# Altium footprint library 封装库.PcbLib: 324 footprints (part 8 of 21)
Each footprint in its own frame and in the unit in brackets; x right, y up, seen from the top. Pads: shape width x height; smd on the part's side, far side on the other; paste and mask are expansions set on the pad; w line width, h text height; cw(c..) or ccw(c..) is an arc to the next point about the centre after c.
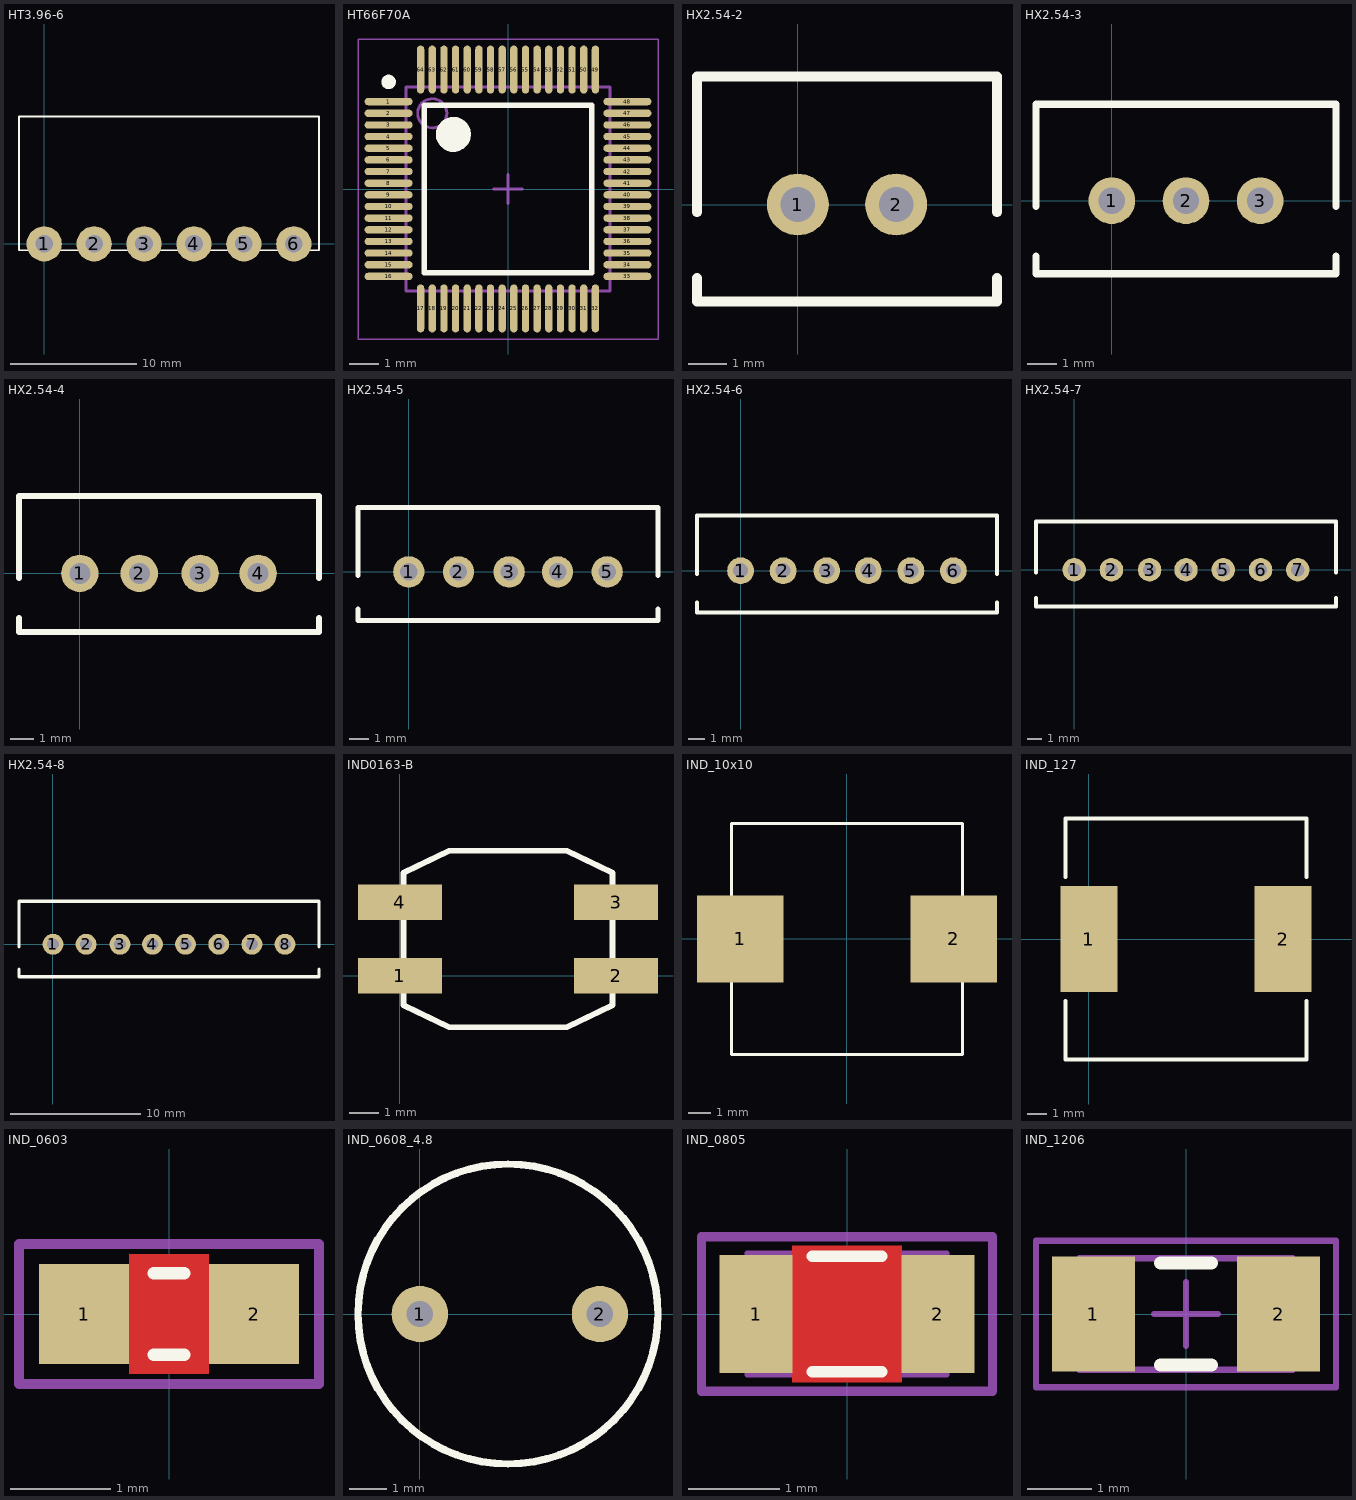
[diagram p7: the footprints below, top view; thin cyan lines are the x and y axes]

## HT3.96-6 [mm] "Connector; Header; 6 Position"
pads (6):
  round 2.8 hole 1.4: 1(0,0) 2(3.96,0) 3(7.92,0) 4(11.88,0) 5(15.84,0) 6(19.8,0)
Top Overlay:
  lines w0.127: -2,-0.5 21.8,-0.5 21.8,10.1 -2,10.1 -2,-0.5

## HT66F70A [mm] "TSQFP, 64-Leads, Body 7.00x7.00mm, Pitch 0.40mm, IPC Medium Density"
height 1.6
pads (64):
  oval 1.65x0.25 smd: 1(-4.1,3) 2(-4.1,2.6) 3(-4.1,2.2) 4(-4.1,1.8) 5(-4.1,1.4) 6(-4.1,1) 7(-4.1,0.6) 8(-4.1,0.2) 9(-4.1,-0.2) 10(-4.1,-0.6) 11(-4.1,-1) 12(-4.1,-1.4) 13(-4.1,-1.8) 14(-4.1,-2.2) 15(-4.1,-2.6) 16(-4.1,-3) 33(4.1,-3) 34(4.1,-2.6) 35(4.1,-2.2) 36(4.1,-1.8) 37(4.1,-1.4) 38(4.1,-1) 39(4.1,-0.6) 40(4.1,-0.2) 41(4.1,0.2) 42(4.1,0.6) 43(4.1,1) 44(4.1,1.4) 45(4.1,1.8) 46(4.1,2.2) 47(4.1,2.6) 48(4.1,3)
  oval 0.25x1.65 smd: 17(-3,-4.1) 18(-2.6,-4.1) 19(-2.2,-4.1) 20(-1.8,-4.1) 21(-1.4,-4.1) 22(-1,-4.1) 23(-0.6,-4.1) 24(-0.2,-4.1) 25(0.2,-4.1) 26(0.6,-4.1) 27(1,-4.1) 28(1.4,-4.1) 29(1.8,-4.1) 30(2.2,-4.1) 31(2.6,-4.1) 32(3,-4.1) 49(3,4.1) 50(2.6,4.1) 51(2.2,4.1) 52(1.8,4.1) 53(1.4,4.1) 54(1,4.1) 55(0.6,4.1) 56(0.2,4.1) 57(-0.2,4.1) 58(-0.6,4.1) 59(-1,4.1) 60(-1.4,4.1) 61(-1.8,4.1) 62(-2.2,4.1) 63(-2.6,4.1) 64(-3,4.1)
Top Overlay:
  circle w0.6: c-1.875,1.875 r0.3
  circle w0.25: c-4.1,3.675 r0.125
  lines w0.2: -2.875,-2.875 2.875,-2.875 2.875,2.875 -2.875,2.875 -2.875,-2.875
Mechanical 13:
  circle w0.1: c-2.6,2.6 r0.5
  lines w0.1: -3.5,-3.5 3.5,-3.5 3.5,3.5 -3.5,3.5 -3.5,-3.5
Mechanical 15:
  lines w0.05: -5.15,-5.15 5.15,-5.15 5.15,5.15 -5.15,5.15 -5.15,-5.15
  lines w0.1: -0.5,0 0.5,0 ; 0,-0.5 0,0.5
3D body: height 1.6, standoff 0.15, extent -3.5,-3.5 3.5,3.5

## HX2.54-2 [mm]
pads (2):
  round 1.6 hole 0.9 unplated: 1(0,0) 2(2.54,0)
Top Overlay:
  lines w0.254: -2.6,-1.9 -2.6,-2.5 5.14,-2.5 5.14,-1.9 ; -2.6,-0.2 -2.6,3.3 5.14,3.3 5.14,-0.2

## HX2.54-3 [mm]
pads (3):
  round 1.6 hole 0.9 unplated: 1(0,0) 2(2.54,0) 3(5.08,0)
Top Overlay:
  lines w0.254: -2.6,-1.9 -2.6,-2.5 7.68,-2.5 7.68,-1.9 ; -2.6,-0.2 -2.6,3.3 7.68,3.3 7.68,-0.2

## HX2.54-4 [mm]
pads (4):
  round 1.6 hole 0.9 unplated: 1(0,0) 2(2.54,0) 3(5.14,0) 4(7.62,0)
Top Overlay:
  lines w0.254: -2.6,-1.9 -2.6,-2.5 10.22,-2.5 10.22,-1.9 ; -2.6,-0.2 -2.6,3.3 10.22,3.3 10.22,-0.2

## HX2.54-5 [mm]
pads (5):
  round 1.6 hole 0.9 unplated: 1(0,0) 2(2.54,0) 3(5.14,0) 4(7.62,0) 5(10.16,0)
Top Overlay:
  lines w0.254: -2.6,-1.9 -2.6,-2.5 12.76,-2.5 12.76,-1.9 ; -2.6,-0.2 -2.6,3.3 12.76,3.3 12.76,-0.2

## HX2.54-6 [mm]
pads (6):
  round 1.6 hole 0.9 unplated: 1(0,0) 2(2.54,0) 3(5.14,0) 4(7.62,0) 5(10.16,0) 6(12.7,0)
Top Overlay:
  lines w0.254: -2.6,-1.9 -2.6,-2.5 15.24,-2.5 ; -2.6,-0.2 -2.6,3.3 15.24,3.3 ; 15.3,-2.5 15.3,-1.9 ; 15.3,-0.2 15.3,3.3

## HX2.54-7 [mm]
pads (7):
  round 1.6 hole 0.9 unplated: 1(0,0) 2(2.54,0) 3(5.14,0) 4(7.62,0) 5(10.16,0) 6(12.7,0)
  round 1.6 hole 0.9 unplated paste+0: 7(15.24,0)
Top Overlay:
  lines w0.254: -2.6,-1.9 -2.6,-2.5 17.84,-2.5 17.84,-1.9 ; -2.6,-0.2 -2.6,3.3 17.84,3.3 17.84,-0.2

## HX2.54-8 [mm]
pads (8):
  round 1.6 hole 0.9 unplated: 1(0,0) 2(2.54,0) 3(5.14,0) 4(7.62,0) 5(10.16,0) 6(12.7,0)
  round 1.6 hole 0.9 unplated paste+0: 7(15.24,0) 8(17.78,0)
Top Overlay:
  lines w0.254: -2.6,-1.9 -2.6,-2.5 20.38,-2.5 20.38,-1.9 ; -2.6,-0.2 -2.6,3.3 20.38,3.3 20.38,-0.2

## IND0163-B [mm]
height 4.8
pads (4):
  rect 2.85x1.2 smd: 1(0,0) 2(7.35,0) 3(7.35,2.5) 4(0,2.5)
Top Overlay:
  lines w0.2: 0.125,-1 1.675,-1.75 5.675,-1.75 7.225,-1 7.225,3.5 5.675,4.25 1.675,4.25 0.125,3.5 0.125,-1

## IND_10x10 [mil]
pads (2):
  rect 150x150 smd: 1(-185,0) 2(185,0)
Top Overlay:
  lines w5: -200,-200 -200,200 200,200 200,-200 -200,-200

## IND_127 [mm] "12*12*7mm"
height 7
pads (2):
  rect 2.9x5.4 smd: 1(0,0) 2(9.9,0)
Top Overlay:
  lines w0.2: -1.2,-3.15 -1.2,-6.15 11.1,-6.15 11.1,-3.15 ; -1.2,3.15 -1.2,6.15 11.1,6.15 11.1,3.15

## IND_0603 [mm]
pads (2):
  rect 0.9x1 smd: 1(-0.85,0) 2(0.85,0)
Top Layer:
  pour cut-out: -0.4,0.6 0.4,0.6 0.4,-0.6 -0.4,-0.6
Top Overlay:
  lines w0.127: -0.152,-0.406 0.152,-0.406 ; -0.152,0.406 0.152,0.406
Mechanical 13:
  lines w0.05: -0.875,-0.475 -0.875,0.475 -0.475,0.475 -0.475,-0.475 -0.875,-0.475 ; -0.475,-0.474 0.475,-0.474 -0.475,-0.474 ; -0.475,0.474 0.475,0.474 -0.475,0.474 ; 0.475,-0.475 0.875,-0.475 0.875,0.475 0.475,0.475 0.475,-0.475
Mechanical 14:
  lines w0.1: -1.5,-0.7 1.5,-0.7 1.5,0.7 -1.5,0.7 -1.5,-0.7
3D body "INDC1608X80N.step": height 0.79, standoff -0.01, extent -0.8,-0.4 0.8,0.4

## IND_0608_4.8 [mm]
pads (2):
  round 1.5 hole 0.7: 1(0,0) 2(4.8,0)
Top Overlay:
  circle w0.2: c2.35,0 r4

## IND_0805 [mm]
pads (2):
  rect 0.8x1.3 smd: 1(-1,0) 2(1,0)
Top Layer:
  pour cut-out: -0.6,0.75 0.6,0.75 0.6,-0.75 -0.6,-0.75
Top Overlay:
  lines w0.127: -0.381,-0.635 0.381,-0.635 ; -0.381,0.635 0.381,0.635
Mechanical 13:
  lines w0.05: 0.6,-0.674 -0.6,-0.674 ; -0.6,-0.675 -0.6,0.675 -1.1,0.675 -1.1,-0.675 -0.6,-0.675 ; -0.6,-0.674 0.6,-0.674 ; 0.6,-0.675 0.6,0.675 ; 0.6,-0.675 1.1,-0.675 1.1,0.675 0.6,0.675 ; 0.6,0.674 -0.6,0.674 0.6,0.674
Mechanical 14:
  lines w0.1: -1.6,-0.85 1.6,-0.85 1.6,0.85 -1.6,0.85 -1.6,-0.85
3D body "FBC_0805.stp": height 0.9, standoff 0, extent -1,-0.625 1,0.625

## IND_1206 [mm] "Body 3.2x1.6mm, IPC Medium Density"
height 0.71
pads (2):
  rect 1.3x1.8 smd: 1(-1.45,0) 2(1.45,0)
Top Overlay:
  lines w0.2: -0.4,-0.8 0.4,-0.8 ; -0.4,0.8 0.4,0.8
Mechanical 13:
  lines w0.1: -1.675,-0.875 -1.675,0.875 1.675,0.875 1.675,-0.875 -1.675,-0.875
Mechanical 15:
  lines w0.1: -0.5,0 0.5,0 ; 0,-0.5 0,0.5 ; -2.35,-1.15 -2.35,1.15 2.35,1.15 2.35,-1.15 -2.35,-1.15
3D body: height 0.71, standoff 0, extent -1.675,-0.875 1.675,0.875